# EAGLE library part BT832 (library BT832)
BLE 5 Module: Nordic nRF52832 SoC, Cortex M4F with PCB trace antenna Check prices <https://pricing.snapeda.com/parts/BT832/Fanstel%20Corp./view-part?ref=eda>
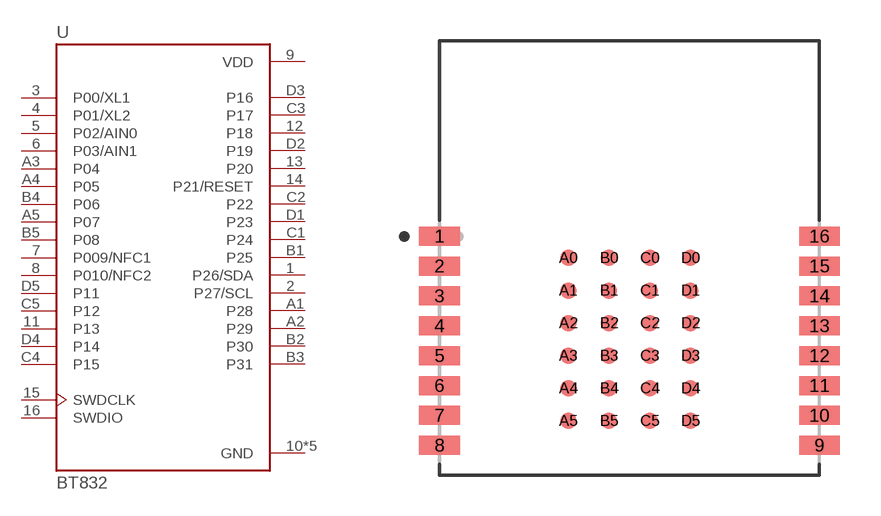
[diagram p0: symbol with the pads of BLEMODULE_BT832; footprint BLEMODULE_BT832]

Designator prefix U

## BT832 (Availability: Not in stock; Description: Bluetooth Bluetooth v5.0 Transceiver Module 2.4GHz Integrated, Trace Surface Mount; MF: Fanstel Corp.; MP: BT832; Package: Module Fanstel Corp.; Price: None)  [BLEMODULE_BT832]
1  P26/SDA
2  P27/SCL
3  P00/XL1
4  P01/XL2
5  P02/AIN0
6  P03/AIN1
7  P009/NFC1
8  P010/NFC2
9  VDD  pwr
10  GND  pwr
11  P13
12  P18
13  P20
14  P21/RESET
15  SWDCLK  in
16  SWDIO
A0  GND  pwr
A1  P28
A2  P29
A3  P04
A4  P05
A5  P07
B0  GND  pwr
B1  P25
B2  P30
B3  P31
B4  P06
B5  P08
C0  GND  pwr
C1  P24
C2  P22
C3  P17
C4  P15
C5  P12
D0  GND  pwr
D1  P23
D2  P19
D3  P16
D4  P14
D5  P11

## Footprint BLEMODULE_BT832 (pad centres in mm)
smd 1.5 x 0.7: 1 -7,0.8; 2 -7,-0.3; 3 -7,-1.4; 4 -7,-2.5; 5 -7,-3.6; 6 -7,-4.7; 7 -7,-5.8; 8 -7,-6.9; 9 7,-6.9; 10 7,-5.8; 11 7,-4.7; 12 7,-3.6; 13 7,-2.5; 14 7,-1.4; 15 7,-0.3; 16 7,0.8
smd 0.6 x 0.6: A0 -2.25,0; A1 -2.25,-1.2; A2 -2.25,-2.4; A3 -2.25,-3.6; A4 -2.25,-4.8; A5 -2.25,-6; B0 -0.75,0; B1 -0.75,-1.2; B2 -0.75,-2.4; B3 -0.75,-3.6; B4 -0.75,-4.8; B5 -0.75,-6; C0 0.75,0; C1 0.75,-1.2; C2 0.75,-2.4; C3 0.75,-3.6; C4 0.75,-4.8; C5 0.75,-6; D0 2.25,0; D1 2.25,-1.2; D2 2.25,-2.4; D3 2.25,-3.6; D4 2.25,-4.8; D5 2.25,-6